# EAGLE library part RJ45-RJHSE-5084 (library AIC_Custom)
Amphenol RJHSE-5084 RJ45 PCB Jack RJ45 8-pin connection PCB PTH connector, 90 degree, 2 LEDs
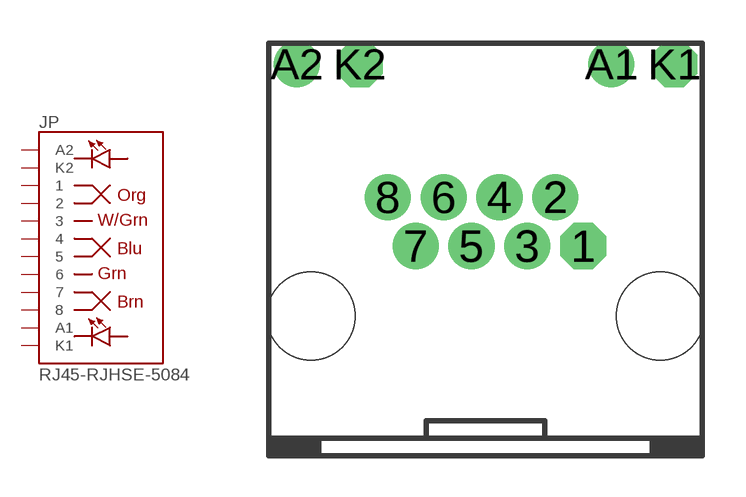
[diagram p9: symbol with the pads of RJ45-RJHSE-5084; footprint RJ45-RJHSE-5084]

Designator prefix JP

## RJ45-RJHSE-5084  [RJ45-RJHSE-5084]
1  1
2  2
3  3
4  4
5  5
6  6
7  7
8  8
A1  A1  pas
A2  A2  pas
K1  K1  pas
K2  K2  pas

## Footprint RJ45-RJHSE-5084 (pad centres in mm)
Amphenol RJHSE-5084 RJ45 90 Degree PCB Socket 2 LEDs, cathodes marked with octagonal pads Front edge is 0.2" from origin.
drill 0.9 pad 1.676 octagon: 1 3.556,2.54; K1 6.858,9.144; K2 -4.572,9.144
drill 0.9 pad 1.676: 2 2.54,4.318; 3 1.524,2.54; 4 0.508,4.318; 5 -0.508,2.54; 6 -1.524,4.318; 7 -2.54,2.54; 8 -3.556,4.318; A1 4.572,9.144; A2 -6.858,9.144
hole 3.2 at -6.35,0
hole 3.2 at 6.35,0